# Altium schematic symbol library resistors.SchLib: 17 symbols
Pins are listed as number, name and electrical type; pins without a type are passive.

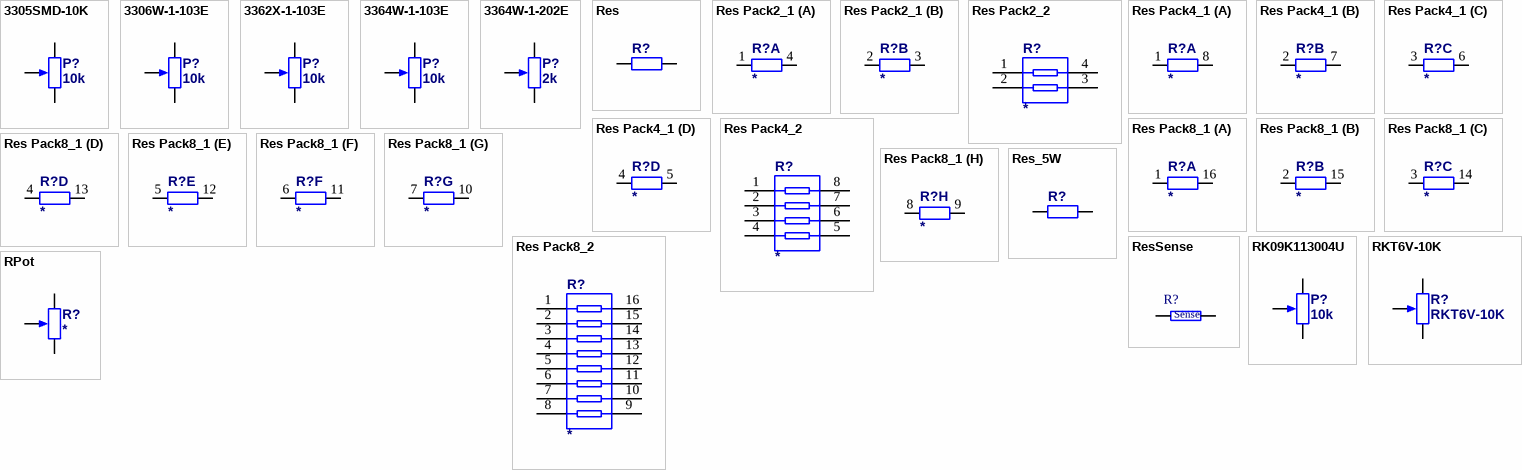
[diagram p0: symbols 3305SMD-10K to RPot]

## 3305SMD-10K
designator P?, comment 10k
3305SMD-10K; Published: 21-10-2009; ComponentLink1Description: datasheet; ComponentLink2Description: supplier; Value: 10k
footprint 3305SMD (SRPassives 3305 SMT trimming potentiometer)
pins: 1 TOP, 2 BOT, 3 TAP
1 alternate drawing of the same symbol

## 3306W-1-103E
designator P?, comment 10k
3306W-1-103E; Published: 21-10-2009; ComponentLink1Description: datasheet; ComponentLink2Description: supplier; Value: 10k
footprint 3306W (Bourns, 6mm Round Vertical Trimming Potentiometer, Single-Turn, Cermet)
pins: 1 TOP, 2 BOT, 3 TAP
1 alternate drawing of the same symbol

## 3362X-1-103E
designator P?, comment 10k
3362X-1-103E; Published: 21-10-2009; ComponentLink1Description: datasheet; ComponentLink2Description: supplier; Value: 10k
footprint 3362X (Bourns, 6mm Round Vertical Trimming Potentiometer, Single-Turn, Cermet)
pins: 1 TOP, 2 BOT, 3 TAP
1 alternate drawing of the same symbol

## 3364W-1-103E
designator P?, comment 10k
3364W-1-103E; Published: 21-10-2009; ComponentLink1Description: datasheet; ComponentLink2Description: supplier; Supplier 1: Farnell; Supplier 2: Farnell; Supplier 3: Farnell; Supplier 4: Farnell; Supplier 5: TME; Supplier Part Number 1: 1601949; Supplier Part Number 2: 2321845RL; Supplier Part Number 3: 2393186; Supplier Part Number 4: 2321845; Supplier Part Number 5: 3364W-1-103E; Value: 10k
footprint 3364W (Bourns 3364W SMT open frame cermet trimmer)
pins: 1 TOP, 2 BOT, 3 TAP
1 alternate drawing of the same symbol

## 3364W-1-202E
designator P?, comment 2k
3364W-1-202E; Published: 21-10-2009; ComponentLink1Description: datasheet; ComponentLink2Description: supplier; Supplier 1: Farnell; Supplier 2: Farnell; Supplier 3: TME; Supplier 4: Farnell; Supplier Part Number 1: 2329298; Supplier Part Number 2: 2052957; Supplier Part Number 3: 3364X-1-202E; Supplier Part Number 4: 2329298RL; Value: 2k
footprint 3364W (Bourns 3364W SMT open frame cermet trimmer)
pins: 1 TOP, 2 BOT, 3 TAP
1 alternate drawing of the same symbol

## Res
designator R?
Resistor; Published: 19-Feb-2006; ComponentLink1Description: datasheet; ComponentLink2Description: supplier
footprint PWR4412-2SBR010F (BOURNS 1W 0.01R)
footprint R0402
footprint R0603
footprint R0805
footprint R1206
footprint R1210
footprint R1812 (1812 size SMD resistor)
footprint R2512 (2512 size SMD resistor)
footprint RES10.35-6.8X2.8 (Resistor, Axial; Body 6.8 x 2.8 mm (LxDia. max), Lead Dia. 0.65 mm (max))
footprint RES14.2-10.5X3.3 (Resistor, Axial; Body 10.5 x 3.3 mm (LxDia. max), Lead Dia. 0.7 mm (max))
footprint RES17.2-13.5X6.3 (Resistor, Axial; Body 13.5 x 6.3 mm (LxDia. max), Lead Dia. 0.7 mm (max))
footprint RES21.6-16.5X6.5 (Resistor, Axial; Body 16.5 x 6.5 mm (LxDia. max), Lead Dia. 0.85 mm (max))
footprint RES30.6-25.5X9 (Resistor, Axial; Body 25.5 x 9 mm (LxDia. max), Lead Dia. 0.85 mm (max))
footprint RES41.6-36.5X10.5 (Resistor, Axial; Body 36.5 x 10.5 x 10.5mm (LxWxH max), Lead Dia. 0.85 mm (max))
simulation model RES (Default semiconductor resistor)
footprint R1206_OLD
pins: 1, 2
2 alternate drawings of the same symbol

## Res Pack2_1
designator R?
Isolated Resistor Network - Parts; Sim Note: Enter the Resistance value into parameter field.; Published: 24-Mar-1999; LatestRevisionDate: 17-Jul-2002; LatestRevisionNote: Re-released for DXP Platform.; PackageReference: DIP-16; Publisher: Altium Limited; Code_JEDEC: MO-001-AC; Value: *
simulation model RESISTOR (Resistor)
signal-integrity model Res Pack
footprint RPack_0201x2 (Chip Resistor Array, (0201x2); SM; 4 Leads; Body 0.90 x 0.70 mm (LxW max))
footprint RPack_0402x2 (Chip Resistor Array, (0402x2); SM; 4 Leads; Body 1.05 x 1.05 mm (LxW max))
footprint RPack_0603x2 (Chip Resistor Array, (0603x2); SM; 4 Leads; Body 1.80 x 1.80 mm (LxW max))
part A pins: 1, 4
part B pins: 2, 3

## Res Pack2_2
designator R?
Isolated Resistor Network; Published: 24-Mar-1999; LatestRevisionDate: 29-May-2009; LatestRevisionNote: IPC-7351 Footprint Added.; PackageVersion: Oct-2003; PackageReference: SSOP16; Publisher: Altium Limited; PackageDescription: 16-Pin Plastic Small Outline Package 0.65 mm Pitch; Code_JEDEC: MO-150-AC; Code_IPC: SOP65P780-16; Value: *
footprint RPack_0201x2 (Chip Resistor Array, (0201x2); SM; 4 Leads; Body 0.90 x 0.70 mm (LxW max))
footprint RPack_0402x2 (Chip Resistor Array, (0402x2); SM; 4 Leads; Body 1.05 x 1.05 mm (LxW max))
footprint RPack_0603x2 (Chip Resistor Array, (0603x2); SM; 4 Leads; Body 1.80 x 1.80 mm (LxW max))
pins: 1, 2, 3, 4
1 alternate drawing of the same symbol

## Res Pack4_1
designator R?
Isolated Resistor Network - Parts; Sim Note: Enter the Resistance value into parameter field.; Published: 24-Mar-1999; LatestRevisionDate: 17-Jul-2002; LatestRevisionNote: Re-released for DXP Platform.; PackageReference: DIP-16; Publisher: Altium Limited; Code_JEDEC: MO-001-AC; Value: *
simulation model RESISTOR (Resistor)
signal-integrity model Res Pack
footprint RPack_0603x4_1206 (Chip Resistor Array, (0603x4); SM; 8 Leads; Body 3.40 x 1.80 mm (LxW max), e.g. Bourns CAT16-J4, Panasonic EXBV8V)
footprint RPack_0805x4 (Chip Resistor Array, (0805x4); SM; 8 Leads; Body 5.28 x 2.40 mm (LxW max))
footprint RPack_0402x4_0804 (Chip Resistor Array, (0402x4); SM; 8 Leads; Body 2.10 x 1.10 mm (LxW max))
part A pins: 1, 8
part B pins: 2, 7
part C pins: 3, 6
part D pins: 4, 5

## Res Pack4_2
designator R?
Isolated Resistor Network; Published: 24-Mar-1999; LatestRevisionDate: 29-May-2009; LatestRevisionNote: IPC-7351 Footprint Added.; PackageVersion: Oct-2003; PackageReference: SSOP16; Publisher: Altium Limited; PackageDescription: 16-Pin Plastic Small Outline Package 0.65 mm Pitch; Code_JEDEC: MO-150-AC; Code_IPC: SOP65P780-16; Value: *
footprint RPack_0603x4_1206 (Chip Resistor Array, (0603x4); SM; 8 Leads; Body 3.40 x 1.80 mm (LxW max), e.g. Bourns CAT16-J4, Panasonic EXBV8V)
footprint RPack_0402x4_0804 (Chip Resistor Array, (0402x4); SM; 8 Leads; Body 2.10 x 1.10 mm (LxW max))
footprint RPack_0805x4 (Chip Resistor Array, (0805x4); SM; 8 Leads; Body 5.28 x 2.40 mm (LxW max))
pins: 1, 2, 3, 4, 5, 6, 7, 8
1 alternate drawing of the same symbol

## Res Pack8_1
designator R?
Isolated Resistor Network - Parts; Sim Note: Enter the Resistance value into parameter field.; Published: 24-Mar-1999; LatestRevisionDate: 17-Jul-2002; LatestRevisionNote: Re-released for DXP Platform.; PackageReference: DIP-16; Publisher: Altium Limited; Code_JEDEC: MO-001-AC; Value: *
simulation model RESISTOR (Resistor)
signal-integrity model Res Pack
footprint RPack_0402x8 (Chip Resistor Array, (0402x8); SM; 16 Leads; Body 3.90 x 1.70 mm (LxW max))
part A pins: 1, 16
part B pins: 2, 15
part C pins: 3, 14
part D pins: 4, 13
part E pins: 5, 12
part F pins: 6, 11
part G pins: 7, 10
part H pins: 8, 9

## Res Pack8_2
designator R?
Isolated Resistor Network; Published: 24-Mar-1999; LatestRevisionDate: 29-May-2009; LatestRevisionNote: IPC-7351 Footprint Added.; PackageVersion: Oct-2003; PackageReference: SSOP16; Publisher: Altium Limited; PackageDescription: 16-Pin Plastic Small Outline Package 0.65 mm Pitch; Code_JEDEC: MO-150-AC; Code_IPC: SOP65P780-16; Value: *
footprint RPack_0402x8 (Chip Resistor Array, (0402x8); SM; 16 Leads; Body 3.90 x 1.70 mm (LxW max))
pins: 1, 2, 3, 4, 5, 6, 7, 8, 9, 10, 11, 12, 13, 14, 15, 16
1 alternate drawing of the same symbol

## Res_5W
designator R?
5W Resistor; Published: 19-Feb-2006; ComponentLink1Description: datasheet; ComponentLink2Description: supplier
simulation model RES (Default semiconductor resistor)
footprint PWR05W_H
footprint PWR05W_V
pins: 1, 2
2 alternate drawings of the same symbol

## ResSense
designator R?
Sense Resistor; ComponentLink1Description: datasheet; ComponentLink2Description: supplier
footprint PWR4412-2SBR010F (Footprint not found)
footprint 13FR010E (Footprint not found)
footprint 13FR010E - Horizontal (Ohmite 3W 0.01R)
pins: 1, 2
text: Sense

## RK09K113004U
designator P?, comment 10k
RK09K113004U; Published: 21-10-2009; ComponentLink1Description: datasheet; ComponentLink2Description: supplier; Value: 10k
footprint RK09K113004U (ALPS RK09K 9mm Size Insulated Shaft Snap-in Type Potentiometer)
pins: 1 TOP, 2 TAP, 3 BOT
1 alternate drawing of the same symbol

## RKT6V-10K
designator R?
Potentiometer: mounting; single turn, horizontal; 10kΩ; 100mW; Published: 21-10-2009; ComponentLink1Description: datasheet; ComponentLink2Description: supplier; Supplier 1: TME; Supplier Part Number 1: RKT6V-10K
footprint PT6LV (Piher trimming potentiometer: PT6-series)
footprint PT6LV_2 (Piher trimming potentiometer: PT6-series)
pins: 1 TOP, 2 BOT, 3 TAP
1 alternate drawing of the same symbol

## RPot
designator R?
Potentiometer; Published: 21-10-2009; ComponentLink1Description: datasheet; ComponentLink2Description: supplier; Value: *
footprint RPot_wieloob_19mm_lezacy
footprint RPot_wieloob_1/4''_reg_z_boku1
footprint RPot_wieloob_1/4''_reg_z_boku2
footprint RPot_wieloob_1/4''_reg_z_gory1
footprint RPot_wieloob_1/4''_reg_z_gory2
footprint PT6LH (Piher trimming potentiometer: PT6-series)
footprint PT6LV (Piher trimming potentiometer: PT6-series)
footprint CA9V
footprint POT16 (Potentiometr from AM10)
footprint RPotC (Potentiometr on cable)
footprint R0141 (16mm Potentiometer: mounting; single turn, horizontal; 30m)
pins: 1 TOP, 2 BOT, 3 TAP
1 alternate drawing of the same symbol